# EAGLE library part 27S- (library Chips)
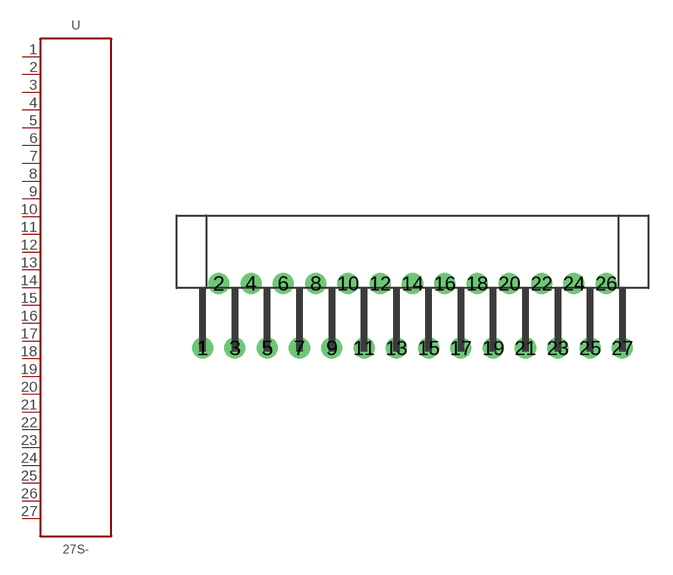
[diagram p13: symbol with the pads of 27TA; footprint 27TA]

Designator prefix U

## 27S-_TA  [27TA]
1  P$1
2  P$2
3  P$3
4  P$4
5  P$5
6  P$6
7  P$7
8  P$8
9  P$9
10  P$10
11  P$11
12  P$12
13  P$13
14  P$14
15  P$15
16  P$16
17  P$17
18  P$18
19  P$19
20  P$20
21  P$21
22  P$22
23  P$23
24  P$24
25  P$25
26  P$26
27  P$27

## Footprint 27TA (pad centres in mm)
drill 0.8: 1 -13,-4; 2 -12,0; 3 -11,-4; 4 -10,0; 5 -9,-4; 6 -8,0; 7 -7,-4; 8 -6,0; 9 -5,-4; 10 -4,0; 11 -3,-4; 12 -2,0; 13 -1,-4; 14 0,0; 15 1,-4; 16 2,0; 17 3,-4; 18 4,0; 19 5,-4; 20 6,0; 21 7,-4; 22 8,0; 23 9,-4; 24 10,0; 25 11,-4; 26 12,0; 27 13,-4